# Altium footprint library PCB-KB-平衡杠.PCBLIB: 5 footprints
Each footprint in its own frame and in the unit in brackets; x right, y up, seen from the top. Pads: shape width x height; smd on the part's side, far side on the other; paste and mask are expansions set on the pad; w line width, h text height; cw(c..) or ccw(c..) is an arc to the next point about the centre after c.
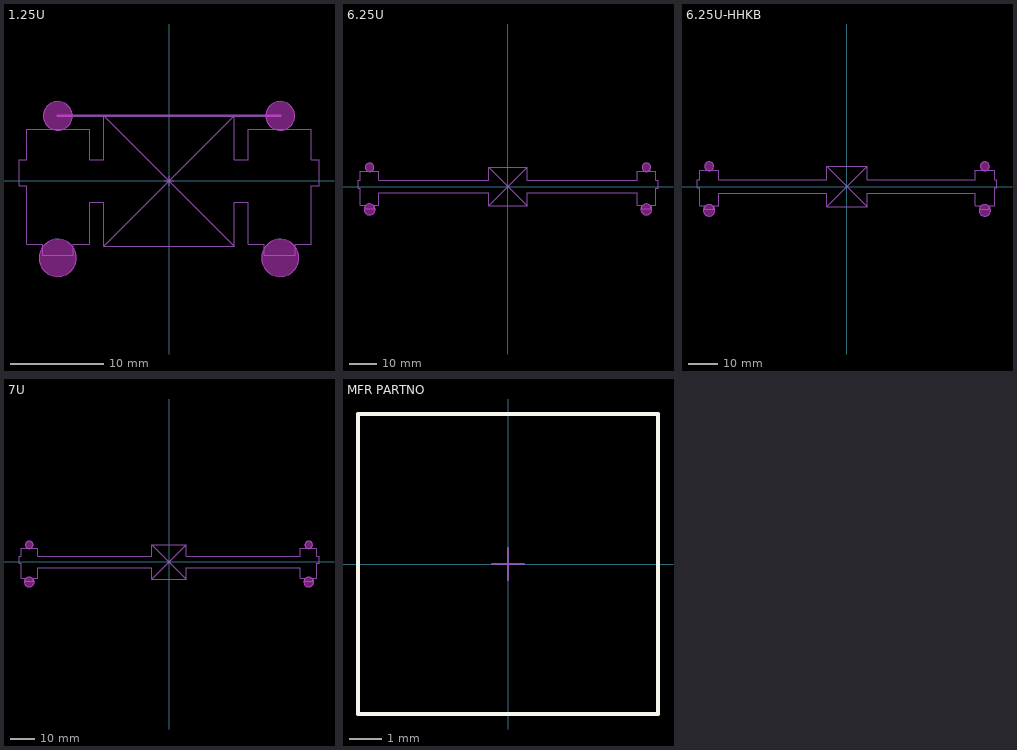
[diagram p0: the footprints below, top view; thin cyan lines are the x and y axes]

## 1.25U [mm]
Keep-Out Layer:
  board cut-out: 10.388,6.985 10.388,6.832 10.448,6.533 10.564,6.251 10.734,5.997 10.95,5.781 11.204,5.611 11.486,5.495 11.785,5.435 11.938,5.435 12.091,5.435 12.39,5.495 12.672,5.611 12.926,5.781 13.142,5.997 13.312,6.251 13.428,6.533 13.488,6.832 13.488,6.985 13.488,7.138 13.428,7.437 13.312,7.719 13.142,7.973 12.926,8.189 12.672,8.359 12.39,8.475 12.091,8.535 11.938,8.535 11.785,8.535 11.486,8.475 11.204,8.359 10.95,8.189 10.734,7.973 10.564,7.719 10.448,7.437 10.388,7.138
  board cut-out: 9.938,-8.255 9.938,-8.452 10.015,-8.838 10.166,-9.202 10.384,-9.53 10.663,-9.809 10.991,-10.027 11.355,-10.178 11.741,-10.255 11.938,-10.255 12.135,-10.255 12.521,-10.178 12.885,-10.027 13.213,-9.809 13.492,-9.53 13.71,-9.202 13.861,-8.838 13.938,-8.452 13.938,-8.255 13.938,-8.058 13.861,-7.672 13.71,-7.308 13.492,-6.98 13.213,-6.701 12.885,-6.483 12.521,-6.332 12.135,-6.255 11.938,-6.255 11.741,-6.255 11.355,-6.332 10.991,-6.483 10.663,-6.701 10.384,-6.98 10.166,-7.308 10.015,-7.672 9.938,-8.058
  board cut-out: -13.488,6.985 -13.488,6.832 -13.428,6.533 -13.312,6.251 -13.142,5.997 -12.926,5.781 -12.672,5.611 -12.39,5.495 -12.091,5.435 -11.938,5.435 -11.785,5.435 -11.486,5.495 -11.204,5.611 -10.95,5.781 -10.734,5.997 -10.564,6.251 -10.448,6.533 -10.388,6.832 -10.388,6.985 -10.388,7.138 -10.448,7.437 -10.564,7.719 -10.734,7.973 -10.95,8.189 -11.204,8.359 -11.486,8.475 -11.785,8.535 -11.938,8.535 -12.091,8.535 -12.39,8.475 -12.672,8.359 -12.926,8.189 -13.142,7.973 -13.312,7.719 -13.428,7.437 -13.488,7.138
  board cut-out: -13.938,-8.255 -13.938,-8.452 -13.861,-8.838 -13.71,-9.202 -13.491,-9.53 -13.213,-9.809 -12.885,-10.027 -12.521,-10.178 -12.135,-10.255 -11.938,-10.255 -11.741,-10.255 -11.355,-10.178 -10.991,-10.027 -10.663,-9.809 -10.384,-9.53 -10.166,-9.202 -10.015,-8.838 -9.938,-8.452 -9.938,-8.255 -9.938,-8.058 -10.015,-7.672 -10.166,-7.308 -10.384,-6.98 -10.663,-6.701 -10.991,-6.483 -11.355,-6.332 -11.741,-6.255 -11.938,-6.255 -12.135,-6.255 -12.521,-6.332 -12.885,-6.483 -13.213,-6.701 -13.491,-6.98 -13.71,-7.308 -13.861,-7.672 -13.938,-8.058
M1:
  circle w0.127: c11.938,-8.255 r2
  circle w0.127: c11.938,6.985 r1.55
  circle w0.127: c-11.938,-8.255 r2
  circle w0.127: c-11.938,6.985 r1.55
Top 元件外形:
  lines w0.127: -7,-7 7,-7 ; -7,-7 -7,-2.301 -8.525,-2.301 -8.525,-6.77 -10.251,-6.77 -10.251,-7.97 -13.55,-7.97 -13.55,-6.77 -15.275,-6.77 -15.275,-0.5 -16.1,-0.5 -16.1,2.3 -15.275,2.3 -15.275,5.529 -8.525,5.529 -8.525,2.3 -7,2.3 -7,6.999 ; -7,-7 7,6.999 ; -7,6.999 7,6.999 ; -7,6.999 7,-7 ; 7,-7 7,-2.301 8.525,-2.301 8.525,-6.77 10.251,-6.77 10.251,-7.97 13.55,-7.97 13.55,-6.77 15.275,-6.77 15.275,-0.5 16.1,-0.5 16.1,2.3 15.275,2.3 15.275,5.529 8.525,5.529 8.525,2.3 7,2.3 7,6.999
  lines w0.254: -11.938,6.985 11.938,6.985
Top 中心点:
  lines w0.127: -0.5,0 0.5,0 ; 0,-0.5 0,0.5

## 6.25U [mm]
Keep-Out Layer:
  board cut-out: -51.55,6.985 -51.55,6.832 -51.49,6.533 -51.374,6.251 -51.204,5.997 -50.988,5.781 -50.734,5.611 -50.452,5.494 -50.153,5.435 -50,5.435 -49.847,5.435 -49.548,5.494 -49.266,5.611 -49.012,5.781 -48.796,5.997 -48.626,6.251 -48.51,6.533 -48.45,6.832 -48.45,6.985 -48.45,7.138 -48.51,7.437 -48.626,7.719 -48.796,7.973 -49.012,8.189 -49.266,8.358 -49.548,8.475 -49.847,8.535 -50,8.535 -50.153,8.535 -50.452,8.475 -50.734,8.358 -50.988,8.189 -51.204,7.973 -51.374,7.719 -51.49,7.437 -51.55,7.138
  board cut-out: -52,-8.255 -52,-8.452 -51.923,-8.838 -51.772,-9.202 -51.554,-9.53 -51.275,-9.809 -50.947,-10.027 -50.583,-10.178 -50.197,-10.255 -50,-10.255 -49.803,-10.255 -49.417,-10.178 -49.053,-10.027 -48.725,-9.809 -48.447,-9.53 -48.228,-9.202 -48.077,-8.838 -48,-8.452 -48,-8.255 -48,-8.058 -48.077,-7.672 -48.228,-7.308 -48.447,-6.98 -48.725,-6.702 -49.053,-6.483 -49.417,-6.332 -49.803,-6.255 -50,-6.255 -50.197,-6.255 -50.583,-6.332 -50.947,-6.483 -51.275,-6.702 -51.554,-6.98 -51.772,-7.308 -51.923,-7.672 -52,-8.058
  board cut-out: 48.449,6.985 48.449,6.832 48.509,6.533 48.626,6.251 48.795,5.997 49.011,5.781 49.265,5.611 49.547,5.494 49.847,5.435 49.999,5.435 50.152,5.435 50.451,5.494 50.734,5.611 50.987,5.781 51.203,5.997 51.373,6.251 51.49,6.533 51.549,6.832 51.549,6.985 51.549,7.138 51.49,7.437 51.373,7.719 51.203,7.973 50.987,8.189 50.734,8.358 50.451,8.475 50.152,8.535 49.999,8.535 49.847,8.535 49.547,8.475 49.265,8.358 49.011,8.189 48.795,7.973 48.626,7.719 48.509,7.437 48.449,7.138
  board cut-out: 47.999,-8.255 47.999,-8.452 48.076,-8.838 48.227,-9.202 48.446,-9.53 48.724,-9.809 49.052,-10.027 49.416,-10.178 49.802,-10.255 49.999,-10.255 50.196,-10.255 50.583,-10.178 50.947,-10.027 51.274,-9.809 51.553,-9.53 51.772,-9.202 51.922,-8.838 51.999,-8.452 51.999,-8.255 51.999,-8.058 51.922,-7.672 51.772,-7.308 51.553,-6.98 51.274,-6.702 50.947,-6.483 50.583,-6.332 50.196,-6.255 49.999,-6.255 49.802,-6.255 49.416,-6.332 49.052,-6.483 48.724,-6.702 48.446,-6.98 48.227,-7.308 48.076,-7.672 47.999,-8.058
M1:
  circle w0.127: c-50,6.985 r1.55
  circle w0.127: c-50,-8.255 r2
  circle w0.127: c49.999,6.985 r1.55
  circle w0.127: c49.999,-8.255 r2
Top 元件外形:
  lines w0.127: -7,-7 7,7 ; 7,-7 -7,7 ; -7,7 -7,2.299 -46.625,2.299 -46.625,5.529 -53.375,5.529 -53.375,2.299 -54.2,2.299 -54.2,-0.5 -53.375,-0.5 -53.375,-6.77 -51.65,-6.77 -51.65,-7.97 -48.351,-7.97 -48.351,-6.77 -46.625,-6.77 -46.625,-2.301 -7,-2.301 -7,-7 7,-7 7,-2.301 46.625,-2.301 46.625,-6.77 48.349,-6.77 48.349,-7.97 51.649,-7.97 51.649,-6.77 53.374,-6.77 53.374,-0.5 54.2,-0.5 54.2,2.299 53.374,2.299 53.374,5.529 46.625,5.529 46.625,2.299 7,2.299 7,7 ; -7,7 7,7
Top 中心点:
  lines w0.051: -0.5,0 0.5,0 ; 0,-0.5 0,0.5

## 6.25U-HHKB [mm]
Keep-Out Layer:
  board cut-out: -49.625,-8.255 -49.625,-8.452 -49.548,-8.838 -49.397,-9.202 -49.179,-9.53 -48.9,-9.809 -48.572,-10.027 -48.208,-10.178 -47.822,-10.255 -47.625,-10.255 -47.428,-10.255 -47.042,-10.178 -46.678,-10.027 -46.35,-9.809 -46.072,-9.53 -45.853,-9.202 -45.702,-8.838 -45.625,-8.452 -45.625,-8.255 -45.625,-8.058 -45.702,-7.672 -45.853,-7.308 -46.072,-6.98 -46.35,-6.702 -46.678,-6.483 -47.042,-6.332 -47.428,-6.255 -47.625,-6.255 -47.822,-6.255 -48.208,-6.332 -48.572,-6.483 -48.9,-6.702 -49.179,-6.98 -49.397,-7.308 -49.548,-7.672 -49.625,-8.058
  board cut-out: -49.175,6.985 -49.175,6.832 -49.115,6.533 -48.999,6.251 -48.829,5.997 -48.613,5.781 -48.359,5.611 -48.077,5.494 -47.778,5.435 -47.625,5.435 -47.472,5.435 -47.173,5.494 -46.891,5.611 -46.637,5.781 -46.421,5.997 -46.251,6.251 -46.135,6.533 -46.075,6.832 -46.075,6.985 -46.075,7.138 -46.135,7.437 -46.251,7.719 -46.421,7.973 -46.637,8.189 -46.891,8.358 -47.173,8.475 -47.472,8.535 -47.625,8.535 -47.778,8.535 -48.077,8.475 -48.359,8.358 -48.613,8.189 -48.829,7.973 -48.999,7.719 -49.115,7.437 -49.175,7.138
  board cut-out: 45.625,-8.255 45.625,-8.452 45.702,-8.838 45.853,-9.202 46.071,-9.53 46.35,-9.809 46.678,-10.027 47.042,-10.178 47.428,-10.255 47.625,-10.255 47.822,-10.255 48.208,-10.178 48.572,-10.027 48.9,-9.809 49.178,-9.53 49.397,-9.202 49.548,-8.838 49.625,-8.452 49.625,-8.255 49.625,-8.058 49.548,-7.672 49.397,-7.308 49.178,-6.98 48.9,-6.702 48.572,-6.483 48.208,-6.332 47.822,-6.255 47.625,-6.255 47.428,-6.255 47.042,-6.332 46.678,-6.483 46.35,-6.702 46.071,-6.98 45.853,-7.308 45.702,-7.672 45.625,-8.058
  board cut-out: 46.075,6.985 46.075,6.832 46.135,6.533 46.251,6.251 46.421,5.997 46.637,5.781 46.891,5.611 47.173,5.494 47.472,5.435 47.625,5.435 47.778,5.435 48.077,5.494 48.359,5.611 48.613,5.781 48.829,5.997 48.999,6.251 49.115,6.533 49.175,6.832 49.175,6.985 49.175,7.138 49.115,7.437 48.999,7.719 48.829,7.973 48.613,8.189 48.359,8.358 48.077,8.475 47.778,8.535 47.625,8.535 47.472,8.535 47.173,8.475 46.891,8.358 46.637,8.189 46.421,7.973 46.251,7.719 46.135,7.437 46.075,7.138
M1:
  circle w0.051: c47.625,-8.255 r2
  circle w0.051: c47.625,6.985 r1.55
  circle w0.051: c-47.625,-8.255 r2
  circle w0.051: c-47.625,6.985 r1.55
Top 元件外形:
  lines w0.127: -7,-7 -7,-2.3 -44.298,-2.3 -44.298,-6.604 -46.101,-6.604 -46.101,-7.773 -49.149,-7.773 -49.149,-6.604 -50.952,-6.604 -50.952,-0.508 -51.816,-0.508 -51.816,2.286 -50.952,2.286 -50.952,5.689 -44.298,5.689 -44.298,2.3 -7,2.3 -7,7 ; -7,-7 7,-7 ; -7,-7 7,7 ; -7,7 7,7 ; -7,7 7,-7 ; 7,-7 7,-2.3 44.298,-2.3 44.298,-6.604 46.101,-6.604 46.101,-7.773 49.149,-7.773 49.149,-6.604 50.952,-6.604 50.952,-0.508 51.816,-0.508 51.816,2.286 50.952,2.286 50.952,5.689 44.298,5.689 44.298,2.3 7,2.3 7,7
Top 中心点:
  lines w0.051: -0.5,0 0.5,0 ; 0,-0.5 0,0.5

## 7U [mm]
Keep-Out Layer:
  board cut-out: -59.15,-8.255 -59.15,-8.452 -59.073,-8.838 -58.922,-9.202 -58.703,-9.53 -58.425,-9.809 -58.097,-10.027 -57.733,-10.178 -57.347,-10.255 -57.15,-10.255 -56.953,-10.255 -56.567,-10.178 -56.203,-10.027 -55.875,-9.809 -55.596,-9.53 -55.378,-9.202 -55.227,-8.838 -55.15,-8.452 -55.15,-8.255 -55.15,-8.058 -55.227,-7.672 -55.378,-7.308 -55.596,-6.98 -55.875,-6.701 -56.203,-6.483 -56.567,-6.332 -56.953,-6.255 -57.15,-6.255 -57.347,-6.255 -57.733,-6.332 -58.097,-6.483 -58.425,-6.701 -58.703,-6.98 -58.922,-7.308 -59.073,-7.672 -59.15,-8.058
  board cut-out: -58.7,6.985 -58.7,6.832 -58.64,6.533 -58.524,6.251 -58.354,5.997 -58.138,5.781 -57.884,5.611 -57.602,5.495 -57.303,5.435 -57.15,5.435 -56.997,5.435 -56.698,5.495 -56.416,5.611 -56.162,5.781 -55.946,5.997 -55.776,6.251 -55.66,6.533 -55.6,6.832 -55.6,6.985 -55.6,7.138 -55.66,7.437 -55.776,7.719 -55.946,7.973 -56.162,8.189 -56.416,8.359 -56.698,8.475 -56.997,8.535 -57.15,8.535 -57.303,8.535 -57.602,8.475 -57.884,8.359 -58.138,8.189 -58.354,7.973 -58.524,7.719 -58.64,7.437 -58.7,7.138
  board cut-out: 55.15,-8.255 55.15,-8.452 55.227,-8.838 55.378,-9.202 55.596,-9.53 55.875,-9.809 56.203,-10.027 56.567,-10.178 56.953,-10.255 57.15,-10.255 57.347,-10.255 57.733,-10.178 58.097,-10.027 58.425,-9.809 58.704,-9.53 58.922,-9.202 59.073,-8.838 59.15,-8.452 59.15,-8.255 59.15,-8.058 59.073,-7.672 58.922,-7.308 58.704,-6.98 58.425,-6.701 58.097,-6.483 57.733,-6.332 57.347,-6.255 57.15,-6.255 56.953,-6.255 56.567,-6.332 56.203,-6.483 55.875,-6.701 55.596,-6.98 55.378,-7.308 55.227,-7.672 55.15,-8.058
  board cut-out: 55.6,6.985 55.6,6.832 55.66,6.533 55.776,6.251 55.946,5.997 56.162,5.781 56.416,5.611 56.698,5.495 56.997,5.435 57.15,5.435 57.303,5.435 57.602,5.495 57.884,5.611 58.138,5.781 58.354,5.997 58.524,6.251 58.64,6.533 58.7,6.832 58.7,6.985 58.7,7.138 58.64,7.437 58.524,7.719 58.354,7.973 58.138,8.189 57.884,8.359 57.602,8.475 57.303,8.535 57.15,8.535 56.997,8.535 56.698,8.475 56.416,8.359 56.162,8.189 55.946,7.973 55.776,7.719 55.66,7.437 55.6,7.138
M1:
  circle w0.127: c57.15,6.985 r1.55
  circle w0.127: c57.15,-8.255 r2
  circle w0.127: c-57.15,6.985 r1.55
  circle w0.127: c-57.15,-8.255 r2
Top 元件外形:
  lines w0.127: -7,-6.999 7,7 ; 7,-6.999 -7,7 ; -7,7 -7,2.299 -53.774,2.299 -53.774,5.529 -60.525,5.529 -60.525,2.299 -61.351,2.299 -61.351,-0.5 -60.525,-0.5 -60.525,-6.77 -58.8,-6.77 -58.8,-7.97 -55.501,-7.97 -55.501,-6.77 -53.774,-6.77 -53.774,-2.301 -7,-2.301 -7,-7 7,-7 7,-2.301 53.775,-2.301 53.775,-6.77 55.5,-6.77 55.5,-7.97 58.8,-7.97 58.8,-6.77 60.526,-6.77 60.526,-0.5 61.35,-0.5 61.35,2.299 60.526,2.299 60.526,5.529 53.775,5.529 53.775,2.299 7,2.299 7,7 ; -7,7 7,7
Top 中心点:
  lines w0.051: -0.5,0 0.5,0 ; 0,-0.5 0,0.5

## MFR PARTNO [mm] "记得设置高度"
Top Overlay:
  lines w0.127: -4.7,-4.7 4.7,-4.7 4.7,4.7 -4.7,4.7 -4.7,-4.7
Top 元件外形:
  lines w0.127: -4.7,-4.7 -4.7,4.7 4.7,4.7 4.7,-4.7 -4.7,-4.7
Top 中心点:
  lines w0.051: -0.5,0 0.5,0 ; 0,-0.5 0,0.5